# Altium footprint library SamacSys.PcbLib: 9 footprints
Each footprint in its own frame and in the unit in brackets; x right, y up, seen from the top. Pads: shape width x height; smd on the part's side, far side on the other; paste and mask are expansions set on the pad; w line width, h text height; cw(c..) or ccw(c..) is an arc to the next point about the centre after c.
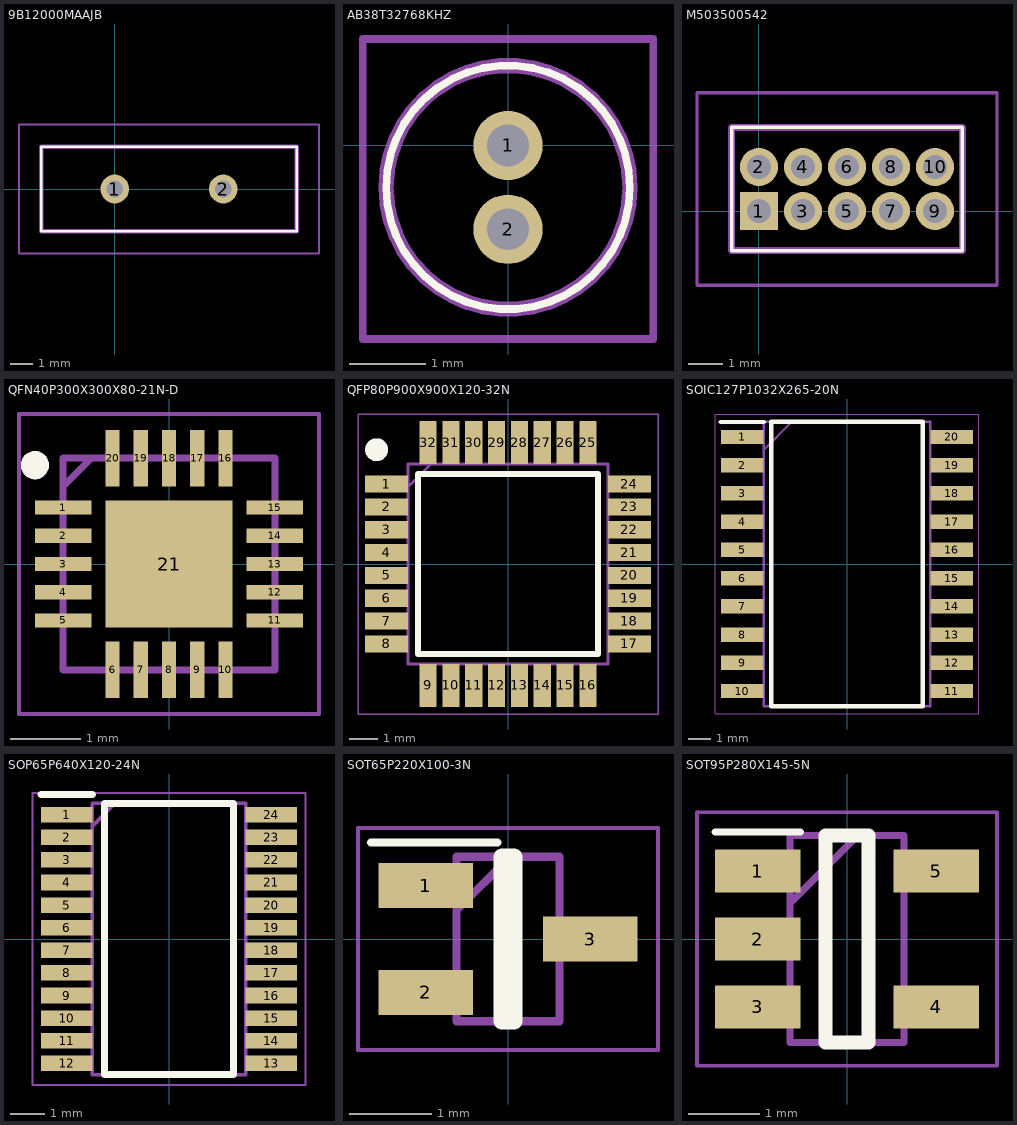
[diagram p0: the footprints below, top view; thin cyan lines are the x and y axes]

## 9B12000MAAJB [mm]
pads (2):
  round 1.294 hole 0.755: 1(0,0) 2(4.88,0)
Top Overlay:
  lines w0.1: -3.31,-1.9 -3.31,1.9 8.19,1.9 8.19,-1.9 -3.31,-1.9
Mechanical 13:
  lines w0.2: -3.31,-1.9 -3.31,1.9 8.19,1.9 8.19,-1.9 -3.31,-1.9
Mechanical 15:
  lines w0.1: -4.31,-2.9 -4.31,2.9 9.19,2.9 9.19,-2.9 -4.31,-2.9
3D body "9B-12.000MAAJ-B.stp": height 3.78, standoff -5, extent -3.31,-1.9 8.19,1.9

## AB38T32768KHZ [mm]
pads (2):
  round 0.91 hole 0.55: 1(0,0) 2(0,-1.1)
Top Overlay:
  lines w0.1: -1.6,-0.55 cw(c0,-0.55) 1.6,-0.55 cw(c0,-0.55) -1.6,-0.55
Mechanical 13:
  lines w0.2: -1.6,-0.55 cw(c0,-0.55) 1.6,-0.55 cw(c0,-0.55) -1.6,-0.55
Mechanical 15:
  lines w0.1: -1.905,-2.54 -1.905,1.397 1.905,1.397 1.905,-2.54 -1.905,-2.54
3D body "AB38T-32.768KHZ.stp": height 8.4, standoff -5, extent -1.6,-2.15 1.6,1.05

## M503500542 [mm]
pads (10):
  rect 1.1x1.1 hole 0.7: 1(0,0)
  round 1.1 hole 0.7: 2(0,1.27) 3(1.27,0) 4(1.27,1.27) 5(2.54,0) 6(2.54,1.27) 7(3.81,0) 8(3.81,1.27) 9(5.08,0) 10(5.08,1.27)
Top Overlay:
  lines w0.1: -0.785,-1.14 5.865,-1.14 5.865,2.41 -0.785,2.41 -0.785,-1.14
Mechanical 13:
  lines w0.2: -0.785,-1.14 5.865,-1.14 5.865,2.41 -0.785,2.41 -0.785,-1.14
Mechanical 15:
  lines w0.1: -1.785,-2.14 6.865,-2.14 6.865,3.41 -1.785,3.41 -1.785,-2.14
3D body "M50-3500542.stp": height 3.95, standoff -2.35, extent -0.63,-1.06 5.72,2.34

## QFN40P300X300X80-21N-D [mm]
pads (21):
  rect 0.8x0.2 smd: 1(-1.5,0.8) 2(-1.5,0.4) 3(-1.5,0) 4(-1.5,-0.4) 5(-1.5,-0.8) 11(1.5,-0.8) 12(1.5,-0.4) 13(1.5,0) 14(1.5,0.4) 15(1.5,0.8)
  rect 0.2x0.8 smd: 6(-0.8,-1.5) 7(-0.4,-1.5) 8(0,-1.5) 9(0.4,-1.5) 10(0.8,-1.5) 16(0.8,1.5) 17(0.4,1.5) 18(0,1.5) 19(-0.4,1.5) 20(-0.8,1.5)
  rect 1.8x1.8 smd: 21(0,0)
Top Overlay:
  circle w0.2: c-1.9,1.4 r0.1
Mechanical 13:
  lines w0.1: -1.5,1.1 -1.1,1.5 ; -1.5,-1.5 1.5,-1.5 1.5,1.5 -1.5,1.5 -1.5,-1.5
Mechanical 15:
  lines w0.05: -2.125,-2.125 2.125,-2.125 2.125,2.125 -2.125,2.125 -2.125,-2.125
3D body "LP5012RUKR.stp": height 0.8, standoff 0, extent -1.55,-1.55 1.55,1.55

## QFP80P900X900X120-32N [mm]
pads (32):
  rect 1.5x0.6 smd: 1(-4.25,2.8) 2(-4.25,2) 3(-4.25,1.2) 4(-4.25,0.4) 5(-4.25,-0.4) 6(-4.25,-1.2) 7(-4.25,-2) 8(-4.25,-2.8) 17(4.25,-2.8) 18(4.25,-2) 19(4.25,-1.2) 20(4.25,-0.4) 21(4.25,0.4) 22(4.25,1.2) 23(4.25,2) 24(4.25,2.8)
  rect 0.6x1.5 smd: 9(-2.8,-4.25) 10(-2,-4.25) 11(-1.2,-4.25) 12(-0.4,-4.25) 13(0.4,-4.25) 14(1.2,-4.25) 15(2,-4.25) 16(2.8,-4.25) 25(2.8,4.25) 26(2,4.25) 27(1.2,4.25) 28(0.4,4.25) 29(-0.4,4.25) 30(-1.2,4.25) 31(-2,4.25) 32(-2.8,4.25)
Top Overlay:
  circle w0.4: c-4.6,4 r0.2
  lines w0.2: -3.15,-3.15 -3.15,3.15 3.15,3.15 3.15,-3.15 -3.15,-3.15
Mechanical 13:
  lines w0.1: -3.5,2.7 -2.7,3.5 ; -3.5,-3.5 -3.5,3.5 3.5,3.5 3.5,-3.5 -3.5,-3.5
Mechanical 15:
  lines w0.05: -5.25,-5.25 -5.25,5.25 5.25,5.25 5.25,-5.25 -5.25,-5.25
3D body "ATSAML21E15B-AUT.stp": height 1.2, standoff 0, extent -4.5,-4.5 4.5,4.5

## SOIC127P1032X265-20N [mm]
pads (20):
  rect 1.925x0.65 smd: 1(-4.712,5.715) 2(-4.712,4.445) 3(-4.712,3.175) 4(-4.712,1.905) 5(-4.712,0.635) 6(-4.712,-0.635) 7(-4.712,-1.905) 8(-4.712,-3.175) 9(-4.712,-4.445) 10(-4.712,-5.715) 11(4.712,-5.715) 12(4.712,-4.445) 13(4.712,-3.175) 14(4.712,-1.905) 15(4.712,-0.635) 16(4.712,0.635) 17(4.712,1.905) 18(4.712,3.175) 19(4.712,4.445) 20(4.712,5.715)
Top Overlay:
  lines w0.2: -5.675,6.39 -3.75,6.39 ; -3.4,-6.4 3.4,-6.4 3.4,6.4 -3.4,6.4 -3.4,-6.4
Mechanical 13:
  lines w0.1: -3.75,5.13 -2.48,6.4 ; -3.75,-6.4 3.75,-6.4 3.75,6.4 -3.75,6.4 -3.75,-6.4
Mechanical 15:
  lines w0.05: -5.925,-6.75 5.925,-6.75 5.925,6.75 -5.925,6.75 -5.925,-6.75
3D body "ATSAMD11D14A-SSUT.stp": height 2.65, standoff 0, extent -5.162,-6.4 5.162,6.4

## SOP65P640X120-24N [mm]
pads (24):
  rect 1.475x0.45 smd: 1(-2.938,3.575) 2(-2.938,2.925) 3(-2.938,2.275) 4(-2.938,1.625) 5(-2.938,0.975) 6(-2.938,0.325) 7(-2.938,-0.325) 8(-2.938,-0.975) 9(-2.938,-1.625) 10(-2.938,-2.275) 11(-2.938,-2.925) 12(-2.938,-3.575) 13(2.938,-3.575) 14(2.938,-2.925) 15(2.938,-2.275) 16(2.938,-1.625) 17(2.938,-0.975) 18(2.938,-0.325) 19(2.938,0.325) 20(2.938,0.975) 21(2.938,1.625) 22(2.938,2.275) 23(2.938,2.925) 24(2.938,3.575)
Top Overlay:
  lines w0.2: -3.675,4.15 -2.2,4.15 ; -1.85,-3.9 1.85,-3.9 1.85,3.9 -1.85,3.9 -1.85,-3.9
Mechanical 13:
  lines w0.1: -2.2,3.25 -1.55,3.9 ; -2.2,-3.9 2.2,-3.9 2.2,3.9 -2.2,3.9 -2.2,-3.9
Mechanical 15:
  lines w0.05: -3.925,-4.2 3.925,-4.2 3.925,4.2 -3.925,4.2 -3.925,-4.2
3D body "LP5012PWR.stp": height 1.2, standoff 0, extent -3.2,-3.9 3.2,3.9

## SOT65P220X100-3N [mm]
pads (3):
  rect 1.15x0.55 smd: 1(-1,0.65) 2(-1,-0.65) 3(1,0)
Top Overlay:
  lines w0.1: -1.668,1.174 -0.128,1.174
  lines w0.2: -0.075,-1 -0.075,1 0.075,1 0.075,-1 -0.075,-1
Mechanical 13:
  lines w0.1: -0.625,0.35 0.025,1 ; -0.625,-1 -0.625,1 0.625,1 0.625,-1 -0.625,-1
Mechanical 15:
  lines w0.05: -1.825,-1.35 -1.825,1.35 1.825,1.35 1.825,-1.35 -1.825,-1.35
3D body "MAX803SQ308T1G.stp": height 1, standoff 0, extent -1.1,-1 1.1,1

## SOT95P280X145-5N [mm]
pads (5):
  rect 1.2x0.6 smd: 1(-1.25,0.95) 2(-1.25,0) 3(-1.25,-0.95) 4(1.25,-0.95) 5(1.25,0.95)
Top Overlay:
  lines w0.1: -1.85,1.5 -0.65,1.5
  lines w0.2: -0.3,-1.45 -0.3,1.45 0.3,1.45 0.3,-1.45 -0.3,-1.45
Mechanical 13:
  lines w0.1: -0.8,0.5 0.15,1.45 ; -0.8,-1.45 -0.8,1.45 0.8,1.45 0.8,-1.45 -0.8,-1.45
Mechanical 15:
  lines w0.05: -2.1,-1.775 -2.1,1.775 2.1,1.775 2.1,-1.775 -2.1,-1.775
3D body "TLV75733PDBVR.stp": height 1.45, standoff 0, extent -1.4,-1.45 1.4,1.45